# Altium schematic symbol library WiCAN_lib.SchLib: 22 symbols
Pins are listed as number, name and electrical type; pins without a type are passive.

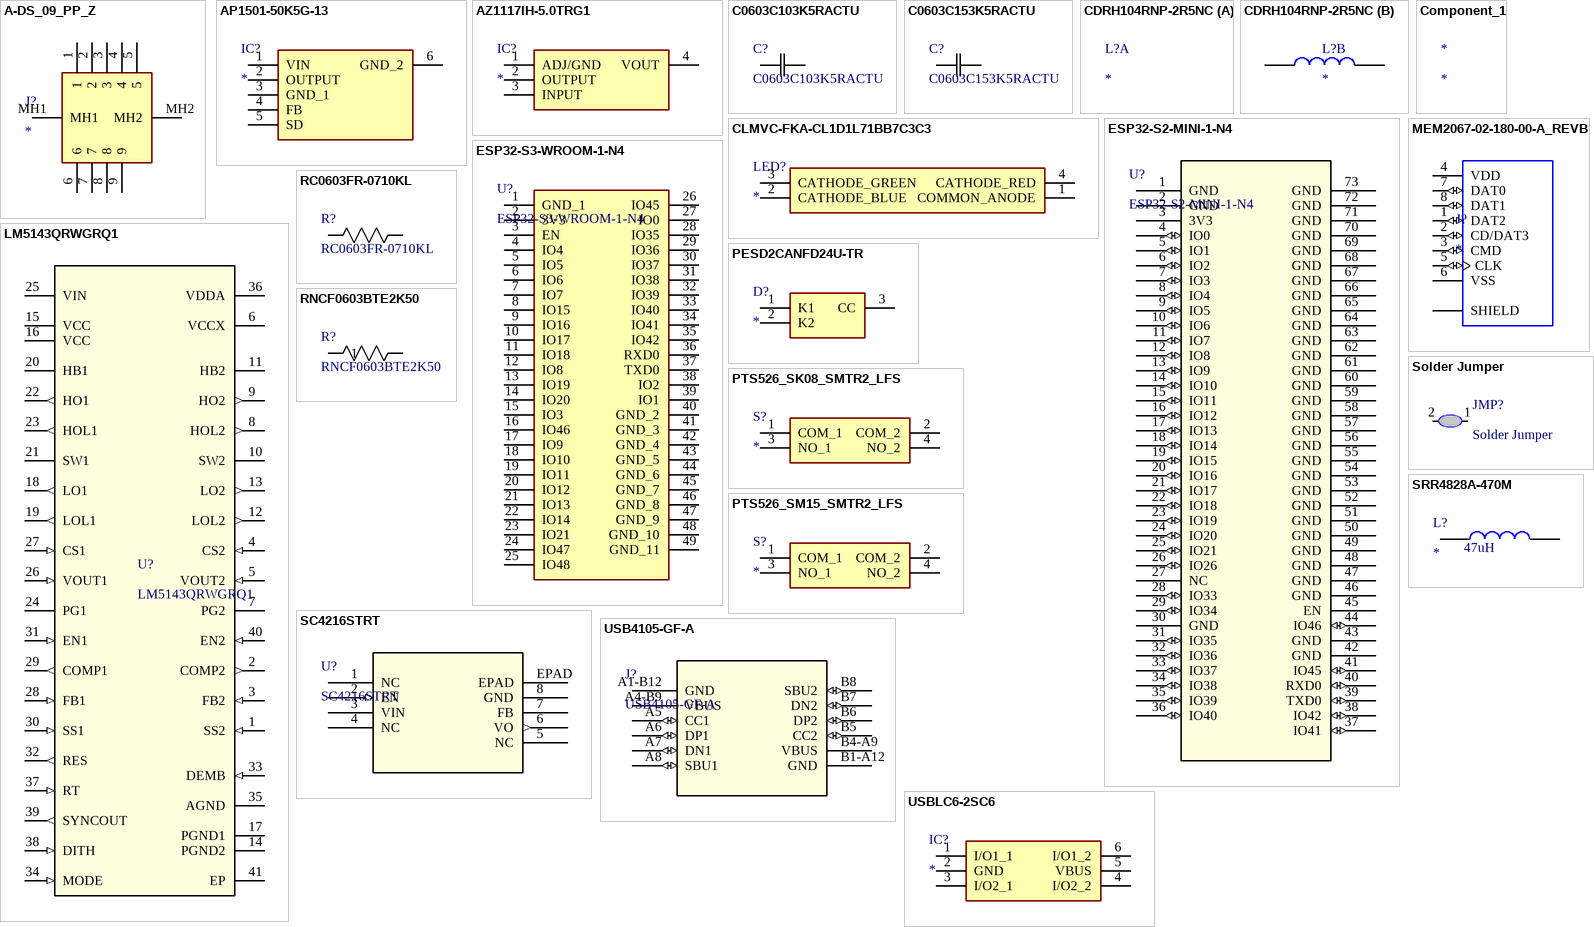
[diagram p0: symbols A-DS_09_PP_Z to USBLC6-2SC6]

## A-DS_09_PP_Z
designator J?
Connector; Manufacturer_Name: ASSMANN WSW components GmbH; Manufacturer_Part_Number: A-DS 09 PP/Z; Datasheet Link: https://datasheet.datasheetarchive.com/originals/distributors/DKDS-12/220555.pdf; Height: 12.35mm
footprint ADS09PPZ
pins: 1, 2, 3, 4, 5, 6, 7, 8, 9, MH1, MH2

## AP1501-50K5G-13
designator IC?
Integrated Circuit; Manufacturer_Name: Diodes Inc.; Manufacturer_Part_Number: AP1501-50K5G-13; Datasheet Link: https://www.diodes.com/assets/Datasheets/AP1501.pdf; Height: 4.85mm; Mouser Part Number: 621-AP1501-50K5G-13; Mouser Price/Stock: https://www.mouser.co.uk/ProductDetail/Diodes-Incorporated/AP1501-50K5G-13?qs=oUsD4qhOtFyyLLjAHWqfUw%3D%3D; Arrow Part Number: AP1501-50K5G-13; Arrow Price/Stock: https://www.arrow.com/en/products/ap1501-50k5g-13/diodes-incorporated?region=nac
footprint AP150150K5G13
pins: 1 VIN, 2 OUTPUT, 3 GND_1, 4 FB, 5 SD, 6 GND_2

## AZ1117IH-5.0TRG1
designator IC?
Integrated Circuit; Manufacturer_Name: Diodes Inc.; Manufacturer_Part_Number: AZ1117IH-5.0TRG1; Datasheet Link: https://www.diodes.com/assets/Datasheets/AZ1117I.pdf; Height: 1.7mm; Mouser Part Number: 621-AZ1117IH-5.0TRG1; Mouser Price/Stock: https://www.mouser.co.uk/ProductDetail/Diodes-Incorporated/AZ1117IH-5.0TRG1?qs=cpo3%2FpBou2jpUVbxjr50ag%3D%3D; Arrow Part Number: AZ1117IH-5.0TRG1; Arrow Price/Stock: https://www.arrow.com/en/products/az1117ih-5.0trg1/diodes-incorporated?region=nac
footprint SOT230P700X170-4N
pins: 1 ADJ/GND, 2 OUTPUT, 3 INPUT, 4 VOUT

## C0603C103K5RACTU
designator C?
SMD Comm X7R, Ceramic, 0.01 uF, 10%, 50 VDC, X7R, SMD, MLCC, Temperature Stable, Class II, 0603; Manufacturer_Name: Kemet; Copyright: Copyright (C) 2025 Ultra Librarian. All rights reserved.; Manufacturer_Part_Number: C0603C103K5RACTU
footprint CAPC17595_87N_KEM
pins: 1, 2

## C0603C153K5RACTU
designator C?
SMD Comm X7R, Ceramic, 0.015 uF, 10%, 50 VDC, X7R, SMD, MLCC, Temperature Stable, Class II, 0603; Manufacturer_Name: Kemet; Copyright: Copyright (C) 2026 Ultra Librarian. All rights reserved.; Manufacturer_Part_Number: C0603C153K5RACTU; Datasheet: https://content.kemet.com/datasheets/KEM_C1002_X7R_SMD.pdf; Digi-Key_Part_Number_1: 399-7860-2-ND; Digi-Key_Part_Number_2: 399-7860-1-ND; Digi-Key_Part_Number_3: 399-7860-6-ND
footprint CAPC17595_87N_KEM
pins: 1, 2

## CDRH104RNP-2R5NC
designator L?
FIXED IND 2.5UH 6.1A 10.5 MOHM
footprint CDRH104RNP-2R5NC
part B pins: 1, 2

## CLMVC-FKA-CL1D1L71BB7C3C3
designator LED?
LED; Manufacturer_Name: Wolfspeed; Manufacturer_Part_Number: CLMVC-FKA-CL1D1L71BB7C3C3; Datasheet Link: https://www.cree.com/led-components/media/documents/1273-CLMVC-FKA.pdf; Height: 1mm; Mouser Part Number: 941-CLMVCFKACL1D1L71; Mouser Price/Stock: https://www.mouser.co.uk/ProductDetail/Cree-LED/CLMVC-FKA-CL1D1L71BB7C3C3?qs=fSnNYG2PaKLJAXXrLOgMiQ%3D%3D; Arrow Part Number: CLMVC-FKA-CL1D1L71BB7C3C3; Arrow Price/Stock: https://www.arrow.com/en/products/clmvc-fka-cl1d1l71bb7c3c3/cree-led?region=nac
footprint CLMVCFKACL1D1L71BB7C3C3
pins: 1 COMMON_ANODE, 2 CATHODE_BLUE, 3 CATHODE_GREEN, 4 CATHODE_RED

## Component_1
designator *

## ESP32-S2-MINI-1-N4
designator U?
No Description Available; Mfr_Name: Espressif Systems; Copyright: Copyright (C) 2022 Ultra Librarian. All rights reserved.; Manufacturer_Part_Number: ESP32-S2-MINI-1-N4; Digi-Key_Part_Number_1: 1965-ESP32-S2-MINI-1-N4-ND; RefDes: RefDes; Type: DEV
footprint ESP32-S2-MINI-1-N4_EXP
pins: 1 GND, 2 GND, 3 3V3, 4 IO0 (io), 5 IO1 (io), 6 IO2 (io), 7 IO3 (io), 8 IO4 (io), 9 IO5 (io), 10 IO6 (io), 11 IO7 (io), 12 IO8 (io), 13 IO9 (io), 14 IO10 (io), 15 IO11 (io), 16 IO12 (io), 17 IO13 (io), 18 IO14 (io), 19 IO15 (io), 20 IO16 (io), 21 IO17 (io), 22 IO18 (io), 23 IO19 (io), 24 IO20 (io), 25 IO21 (io), 26 IO26 (io), 27 NC, 28 IO33 (io), 29 IO34 (io), 30 GND, 31 IO35 (io), 32 IO36 (io), 33 IO37 (io), 34 IO38 (io), 35 IO39 (io), 36 IO40 (io), 37 IO41 (io), 38 IO42 (io), 39 TXD0 (io), 40 RXD0 (io), 41 IO45 (io), 42 GND, 43 GND, 44 IO46 (io), 45 EN, 46 GND, 47 GND, 48 GND, 49 GND, 50 GND, 51 GND, 52 GND, 53 GND, 54 GND, 55 GND, 56 GND, 57 GND, 58 GND, 59 GND, 60 GND, 61 GND, 62 GND, 63 GND, 64 GND, 65 GND, 66 GND, 67 GND, 68 GND, 69 GND, 70 GND, 71 GND, 72 GND, 73 GND

## ESP32-S3-WROOM-1-N4
designator U?
Integrated Circuit; Manufacturer_Name: Espressif Systems; Datasheet Link: https://www.espressif.com/sites/default/files/documentation/esp32-s3-wroom-1_wroom-1u_datasheet_en.pdf; Height: 3.25mm; Manufacturer_Part_Number: ESP32-S3-WROOM-1-N4; Mouser Part Number: 356-ESP32-S3WROOM1N4; Mouser Price/Stock: https://www.mouser.co.uk/ProductDetail/Espressif-Systems/ESP32-S3-WROOM-1-N4?qs=Li%252BoUPsLEnsO%2FkiJOUK0FQ%3D%3D
footprint ESP32S3WROOM1N4
pins: 1 GND_1, 2 3V3, 3 EN, 4 IO4, 5 IO5, 6 IO6, 7 IO7, 8 IO15, 9 IO16, 10 IO17, 11 IO18, 12 IO8, 13 IO19, 14 IO20, 15 IO3, 16 IO46, 17 IO9, 18 IO10, 19 IO11, 20 IO12, 21 IO13, 22 IO14, 23 IO21, 24 IO47, 25 IO48, 26 IO45, 27 IO0, 28 IO35, 29 IO36, 30 IO37, 31 IO38, 32 IO39, 33 IO40, 34 IO41, 35 IO42, 36 RXD0, 37 TXD0, 38 IO2, 39 IO1, 40 GND_2, 41 GND_3, 42 GND_4, 43 GND_5, 44 GND_6, 45 GND_7, 46 GND_8, 47 GND_9, 48 GND_10, 49 GND_11

## LM5143QRWGRQ1
designator U?
3.5-V to 65-V low Iq, dual, 2-phase synchronous buck DC-DC controller 40-VQFNP -40 to 150; Manufacturer_Name: Texas Instruments; TYPE: TYPE; RefDes: RefDes; Copyright: Copyright (C) 2026 Ultra Librarian. All rights reserved.; Manufacturer_Part_Number: LM5143QRWGRQ1; Datasheet: https://www.ti.com/lit/gpn/lm5143-q1
footprint RWG0040A
pins: 1 SS2 (in), 2 COMP2 (out), 3 FB2 (in), 4 CS2 (in), 5 VOUT2 (in), 6 VCCX (power), 7 PG2 (oc), 8 HOL2 (out), 9 HO2 (out), 10 SW2 (power), 11 HB2 (power), 12 LOL2 (out), 13 LO2 (out), 14 PGND2 (power), 15 VCC (power), 16 VCC (power), 17 PGND1 (power), 18 LO1 (out), 19 LOL1 (out), 20 HB1 (power), 21 SW1 (power), 22 HO1 (out), 23 HOL1 (out), 24 PG1 (oc), 25 VIN (power), 26 VOUT1 (in), 27 CS1 (in), 28 FB1 (in), 29 COMP1 (out), 30 SS1 (in), 31 EN1 (in), 32 RES (out), 33 DEMB (in), 34 MODE (in), 35 AGND (power), 36 VDDA (power), 37 RT (in), 38 DITH (in), 39 SYNCOUT (out), 40 EN2 (in), 41 EP (power)

## MEM2067-02-180-00-A_REVB
designator J?
Micro SD Memory Card ConnectorSMT, Hinged, 1.80mm Profile; MP: MEM2067-02-180-00-A_REVB; Value: *; Package: None; Availability: Unavailable; Price: None
footprint GCT_MEM2067-02-180-00-A_REVB
pins: 1 DAT2 (io), 2 CD/DAT3 (io), 3 CMD (io), 4 VDD (power), 5 CLK (io), 6 VSS (power), 7 DAT0 (io), 8 DAT1 (io), 9 SHIELD, 10 SHIELD, 11 SHIELD, 12 SHIELD

## PESD2CANFD24U-TR
designator D?
Diode; Manufacturer_Name: Nexperia; Manufacturer_Part_Number: PESD2CANFD24U-TR; Datasheet Link: https://assets.nexperia.com/documents/data-sheet/PESD2CANFD24U-T.pdf; Height: 1.1mm; Mouser Part Number: 771-PESD2CANFD24U-TR; Mouser Price/Stock: https://www.mouser.co.uk/ProductDetail/Nexperia/PESD2CANFD24U-TR?qs=vmHwEFxEFR%252BPr2so13o7KA%3D%3D; Arrow Part Number: PESD2CANFD24U-TR; Arrow Price/Stock: https://www.arrow.com/en/products/pesd2canfd24u-tr/nexperia
footprint SOT95P230X110-3N
pins: 1 K1, 2 K2, 3 CC

## PTS526_SK08_SMTR2_LFS
designator S?
Switch; Manufacturer_Name: C & K COMPONENTS; Manufacturer_Part_Number: PTS526 SK08 SMTR2 LFS; Datasheet Link: https://www.ckswitches.com/media/2780/pts526.pdf; Height: 1.6mm; Mouser Part Number: 611-PTS526SK08SMTR2L; Mouser Price/Stock: https://www.mouser.co.uk/ProductDetail/CK/PTS526-SK08-SMTR2-LFS?qs=UXgszm6BlbECw%2FyKtIWLXA%3D%3D; Arrow Part Number: PTS526 SK08 SMTR2 LFS; Arrow Price/Stock: https://www.arrow.com/en/products/pts526-sk08-smtr2-lfs/ck?region=nac
footprint PTS526SKG15SMTR2LFS
pins: 1 COM_1, 2 COM_2, 3 NO_1, 4 NO_2

## PTS526_SM15_SMTR2_LFS
designator S?
Switch; Manufacturer_Name: C & K COMPONENTS; Manufacturer_Part_Number: PTS526 SM15 SMTR2 LFS; Datasheet Link: https://www.mouser.com/datasheet/2/60/pts526-1651200.pdf; Height: 1.5mm; Mouser Part Number: 611-PTS526SM15SMTR2L; Mouser Price/Stock: https://www.mouser.co.uk/ProductDetail/CK/PTS526-SM15-SMTR2-LFS?qs=UXgszm6BlbENivbslIA%252B5g%3D%3D; Arrow Part Number: PTS526 SM15 SMTR2 LFS; Arrow Price/Stock: https://www.arrow.com/en/products/pts526-sm15-smtr2-lfs/ck?region=nac
footprint PTS526SM15SMTR2LFS
pins: 1 COM_1, 2 COM_2, 3 NO_1, 4 NO_2

## RC0603FR-0710KL
designator R?
RES SMD 10kO 1% 1/10W 0603; Manufacturer_Name: Yageo; R: 10k; Copyright: Copyright (C) 2025 Ultra Librarian. All rights reserved.; Manufacturer_Part_Number: RC0603FR-0710KL
footprint RC0603N_YAG
pins: 1, 2

## RNCF0603BTE2K50
designator R?
RES SMD 2.5K OHM 0.1% 1/6W 0603; Manufacturer_Name: Stackpole International; Copyright: Copyright (C) 2025 Ultra Librarian. All rights reserved.; Manufacturer_Part_Number: RNCF0603BTE2K50
footprint RES_RNCF0603_STP
pins: 1, 2

## SC4216STRT
designator U?
Linear Voltage Regulator IC Positive Adjustable (Fixed) 1 Output 3A 8-SOIC, EDP; Manufacturer_Name: Semtech; Copyright: Copyright (C) 2026 Ultra Librarian. All rights reserved.; Manufacturer_Part_Number: SC4216STRT; Digi-Key_Part_Number_1: SC4216STR-ND; Digi-Key_Part_Number_2: SC4216SCT-ND; Digi-Key_Part_Number_3: SC4216SDKR-ND; RefDes: RefDes; Type: Type
footprint SOIC-8-EDP_SEM
pins: 1 NC, 2 EN (in), 3 VIN (power), 4 NC, 5 NC, 6 VO (out), 7 FB, 8 GND (power), EPAD (power)

## Solder Jumper
designator JMP?
footprint Solder Jumper
pins: 1, 2

## SRR4828A-470M
designator L?  Inductance: 47uH
Inductor; Manufacturer_Name: Bourns; Manufacturer_Part_Number: SRR4828A-470M; Datasheet Link: https://www.bourns.com/docs/Product-Datasheets/SRR4828A.pdf; Height: 3mm; Mouser Part Number: 652-SRR4828A-470M; Mouser Price/Stock: https://www.mouser.co.uk/ProductDetail/Bourns/SRR4828A-470M?qs=EU6FO9ffTwekJ%252BqixsyVcA%3D%3D; Arrow Part Number: SRR4828A-470M; Arrow Price/Stock: https://www.arrow.com/en/products/srr4828a-470m/bourns
footprint SRR4828A560M
pins: 1, 2

## USB4105-GF-A
designator J?
No Description Available; Mfr_Name: Global Connector Technology; Copyright: Copyright (C) 2022 Ultra Librarian. All rights reserved.; Manufacturer_Part_Number: USB4105-GF-A; Digi-Key_Part_Number_1: 2073-USB4105-GF-ACT-ND; Digi-Key_Part_Number_2: 2073-USB4105-GF-ADKR-ND; Digi-Key_Part_Number_3: 2073-USB4105-GF-ATR-ND; RefDes: RefDes; Type: DEV
footprint USB4105_GCT
pins: A1-B12 GND, A4-B9 VBUS (power), A5 CC1 (io), A6 DP1 (io), A7 DN1 (io), A8 SBU1 (io), B1-A12 GND, B4-A9 VBUS (power), B5 CC2 (io), B6 DP2 (io), B7 DN2 (io), B8 SBU2 (io)

## USBLC6-2SC6
designator IC?
Integrated Circuit; Manufacturer_Name: STMicroelectronics; Manufacturer_Part_Number: USBLC6-2SC6; Datasheet Link: http://www.st.com/st-web-ui/static/active/en/resource/technical/document/datasheet/CD00050750.pdf; Height: 1.45mm; Mouser Part Number: 511-USBLC6-2SC6; Mouser Price/Stock: https://www.mouser.co.uk/ProductDetail/STMicroelectronics/USBLC6-2SC6?qs=po45yt2pPpu%2FhNIlwQdTlg%3D%3D; Arrow Part Number: USBLC6-2SC6; Arrow Price/Stock: https://www.arrow.com/en/products/usblc6-2sc6/stmicroelectronics?region=nac
footprint SOT95P280X145-6N
pins: 1 I/O1_1, 2 GND, 3 I/O2_1, 4 I/O2_2, 5 VBUS, 6 I/O1_2